# Altium footprint library FMCW-Radar-v1.PcbLib: 49 footprints (part 1 of 4)
Each footprint in its own frame and in the unit in brackets; x right, y up, seen from the top. Pads: shape width x height; smd on the part's side, far side on the other; paste and mask are expansions set on the pad; w line width, h text height; cw(c..) or ccw(c..) is an arc to the next point about the centre after c.
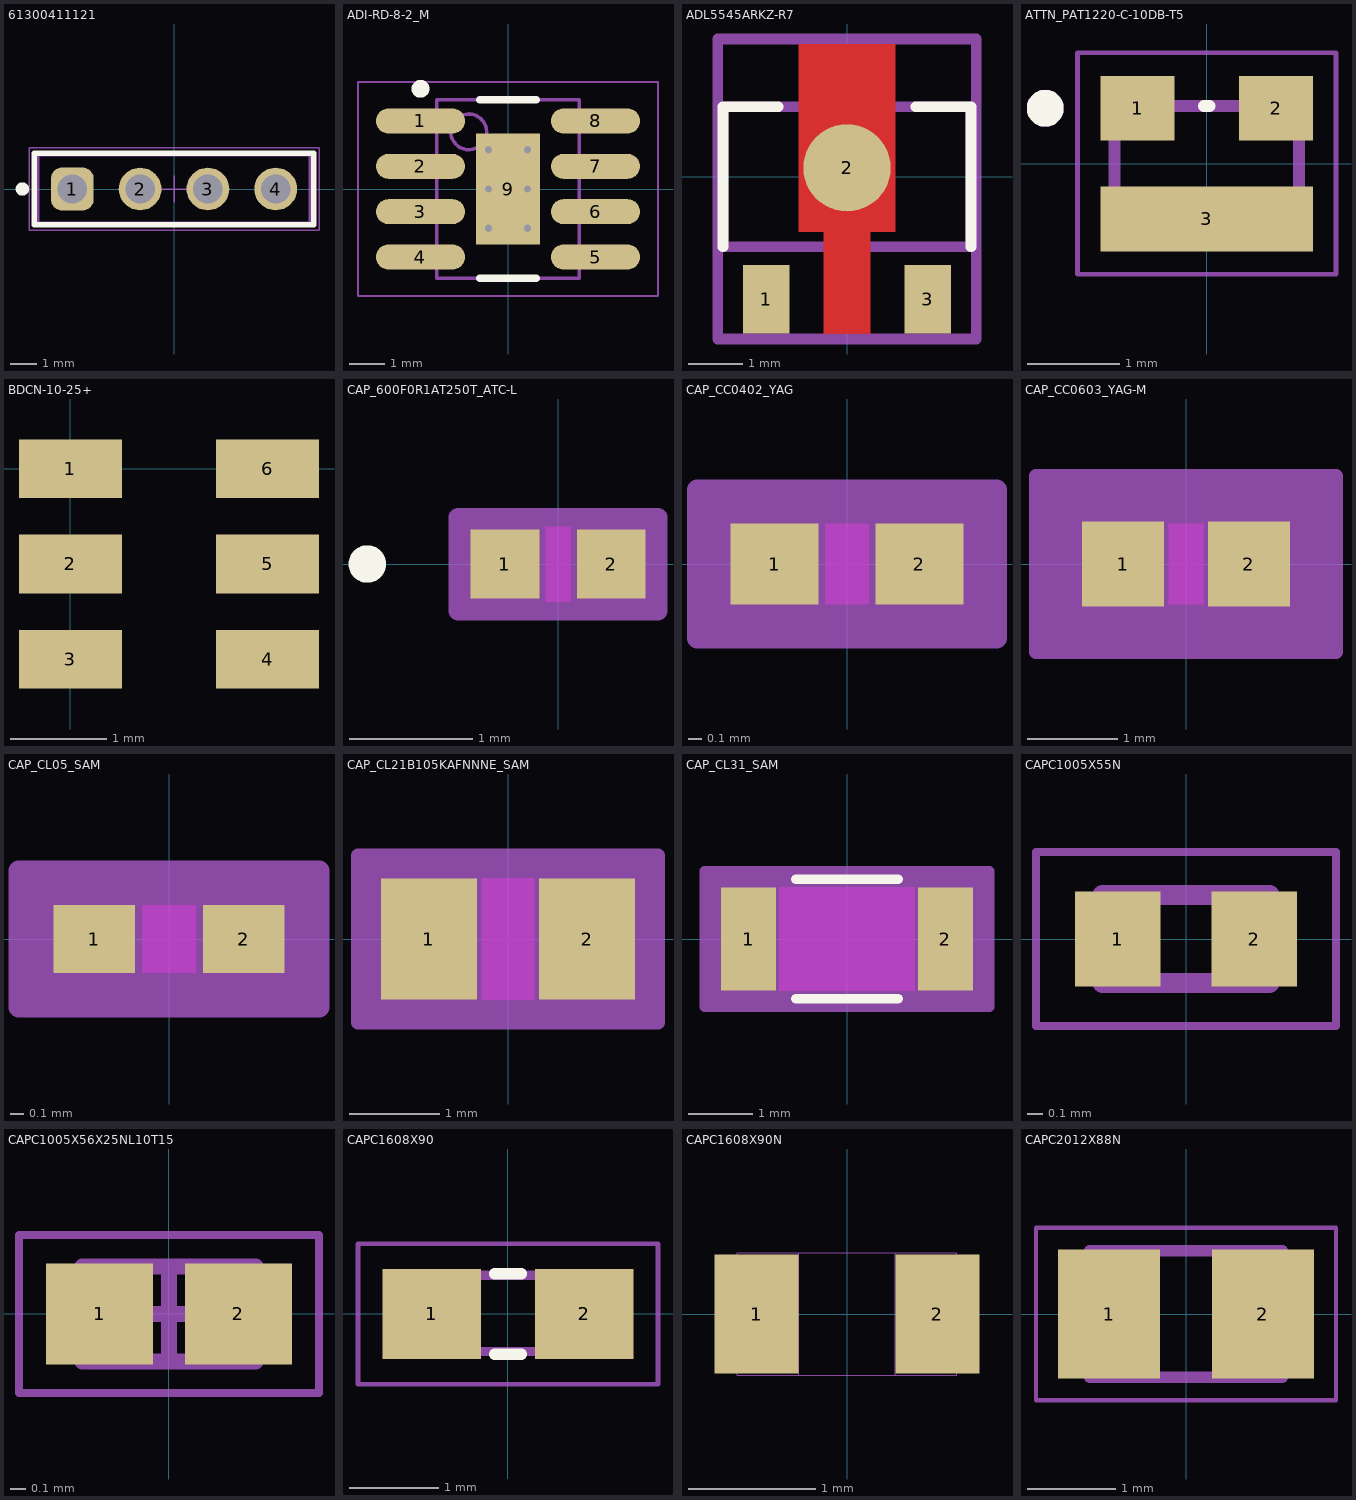
[diagram p0: the footprints below, top view; thin cyan lines are the x and y axes]

## 61300411121 [mm] "Pin Header, pitch 2.54 mm, THT, Vertical, single row, 4p"
height 8.54
pads (4):
  rrect50% 1.6x1.6 hole 1.1: 1(-3.81,0)
  round 1.6 hole 1.1: 2(-1.27,0) 3(1.27,0) 4(3.81,0)
Top Overlay:
  circle w0.25: c-5.68,0 r0.125
  lines w0.2: -5.23,-1.345 5.23,-1.345 5.23,1.345 -5.23,1.345 -5.23,-1.345
Top Designator:
  text ".Designator" at -7.498,-0.5 h1.5
Top Component Outline:
  lines w0.1: -5.08,-1.27 -5.08,1.27 5.08,1.27 5.08,-1.27 -5.08,-1.27
Top Courtyard:
  lines w0.05: -5.43,-1.545 -5.43,1.545 5.43,1.545 5.43,-1.545 -5.43,-1.545
Top Component Center:
  lines w0.05: -0.5,0 0.5,0 ; 0,-0.5 0,0.5
3D body "61300411121.stp": height 8.57, standoff -2.97, extent -5.08,-1.27 5.08,1.27

## ADI-RD-8-2_M [mm] "SOIC, 8-Leads, Body 4.9x3.9mm, Pitch 1.27mm, Thermal Pad 3.098x2.41mm, IPC Low Density"
height 1.75
pads (9):
  oval 2.5x0.7 smd: 1(-2.45,1.905) 2(-2.45,0.635) 3(-2.45,-0.635) 4(-2.45,-1.905) 5(2.45,-1.905) 6(2.45,-0.635) 7(2.45,0.635) 8(2.45,1.905)
  rect 1.8x3.1 smd: 9(0,0)
via -0.55,1.1 diameter 0.5 hole 0.2
via 0.55,1.1 diameter 0.5 hole 0.2
via -0.55,0 diameter 0.5 hole 0.2
via 0.55,0 diameter 0.5 hole 0.2
via -0.55,-1.1 diameter 0.5 hole 0.2
via 0.55,-1.1 diameter 0.5 hole 0.2
Top Overlay:
  circle w0.25: c-2.45,2.805 r0.125
  lines w0.2: -0.8,-2.5 0.8,-2.5 ; -0.8,2.5 0.8,2.5
Top 3D Body:
  circle w0.1: c-1.1,1.6 r0.5
  lines w0.1: -2,-2.5 -2,2.5 2,2.5 2,-2.5 -2,-2.5
Top Courtyard:
  lines w0.05: -4.2,-3 -4.2,3 4.2,3 4.2,-3 -4.2,-3
  lines w0.1: -0.5,0 0.5,0 ; 0,-0.5 0,0.5
3D body: height 1.75, standoff 0.1, extent -2,-2.5 2,2.5

## ADL5545ARKZ-R7 [mm]
pads (3):
  rect 0.86x1.27 smd paste+0 mask+0: 1(-1.5,-2.278) 3(1.5,-2.278)
  round 1.62 smd paste+0 mask+0: 2(0,0.164)
Top Layer:
  region: -0.9,2.458 0.9,2.458 0.9,-1.022 0.43,-1.022 0.43,-2.913 -0.43,-2.913 -0.43,-1.022 -0.9,-1.022
Top Overlay:
  lines w0.2: -2.3,-1.3 -2.3,1.3 -1.275,1.3 ; 1.275,1.3 2.3,1.3 2.3,-1.3
Top Assembly:
  lines w0.2: -2.4,-3.013 -2.4,2.558 2.4,2.558 2.4,-3.013 -2.4,-3.013
  text ".Designator" at 0,-0.228 h1
Top 3D Body:
  lines w0.2: -2.3,-1.3 -2.3,1.3 2.3,1.3 2.3,-1.3 -2.3,-1.3
Top Courtyard:
  lines w0.2: -2.4,-3.013 -2.4,2.558 2.4,2.558 2.4,-3.013 -2.4,-3.013
Top Component Center:
  lines w0.1: -0.5,0 0.5,0 ; 0,-0.5 0,0.5
3D body "IC_Analog_Devices_HMC589AST89E_eec.STEP": height 0.25, standoff 0, extent -2.4,-3.013 2.4,2.558

## ATTN_PAT1220-C-10DB-T5 [mm]
pads (3):
  rect 0.8x0.7 smd: 1(-0.75,0.6) 2(0.75,0.6)
  rect 2.3x0.7 smd: 3(0,-0.6)
Top Overlay:
  circle w0.2: c-1.75,0.6 r0.1
  lines w0.127: -0.03,0.625 0.03,0.625
Top 3D Body:
  circle w0.2: c-1.75,0.6 r0.1
  lines w0.127: -1,-0.625 -1,0.625 1,0.625 1,-0.625 -1,-0.625
Top Courtyard:
  lines w0.05: -1.4,-1.2 -1.4,1.2 1.4,1.2 1.4,-1.2 -1.4,-1.2

## BDCN-10-25+ [mm]
pads (6):
  rect 1.07x0.61 smd paste+0 mask+0: 1(0,0) 2(0,-0.99) 3(0,-1.98) 4(2.05,-1.98) 5(2.05,-0.99) 6(2.05,0)

## CAP_600F0R1AT250T_ATC-L [mil]
pads (2):
  rect 22x22 smd paste+0 mask+0: 1(-17,0) 2(17,0)
Top Layer keep-out:
  region: -4,-10 -4,10 4,10 4,-10
Top Overlay:
  circle w6: c-61,0 r3
Keep-Out Layer:
  region: -4,-12 -4,12 4,12 4,-12
Top 3D Body:
  circle w0: c-12,0 r3
  lines w1: -22,-12 -22,12 ; -22,-12 22,-12 ; -22,-12 -6,-12 -6,12 -22,12 ; -22,-12 -22,12 ; -22,12 22,12 ; 22,-12 22,12 ; 22,-12 22,12 ; 22,-12 6,-12 6,12 22,12
Top Courtyard:
  region: 32,-15 -32,-15 -32,15 32,15
  lines w6: -32,-15 32,-15 32,15 -32,15 -32,-15
3D body "CAP_600F0R1AT250T_ATC.step": height 24.02, standoff 0, extent -22.01,-12.01 22.01,12.01

## CAP_CC0402_YAG [mil]
pads (2):
  rect 26x24 smd paste+0 mask+0: 1(-21.5,0) 2(21.5,0)
Top Layer keep-out:
  region: -6.5,-10 -6.5,10 6.5,10 6.5,-10
Keep-Out Layer:
  region: -6.5,-12 -6.5,12 6.5,12 6.5,-12
Top 3D Body:
  lines w1: -20.5,-12 -20.5,12 ; -20.5,-12 -8.5,-12 -8.5,12 -20.5,12 ; -20.5,-12 20.5,-12 ; -20.5,-12 -20.5,12 ; -20.5,12 20.5,12 ; 20.5,-12 8.5,-12 8.5,12 20.5,12 ; 20.5,-12 20.5,12 ; 20.5,-12 20.5,12
Top Courtyard:
  region: 44.5,-22 -44.5,-22 -44.5,22 44.5,22
  lines w6: -44.5,-22 -44.5,22 44.5,22 44.5,-22 -44.5,-22
3D body "CAP_CC0402_YAG.step": height 22.01, standoff 0, extent -20.51,-12.01 20.51,12.01

## CAP_CC0603_YAG-M [mil]
pads (2):
  rect 36x37 smd paste+0 mask+0: 1(-27.5,0) 2(27.5,0)
Top Layer keep-out:
  region: -7.5,-15.5 -7.5,15.5 7.5,15.5 7.5,-15.5
Keep-Out Layer:
  region: -7.5,-17.5 -7.5,17.5 7.5,17.5 7.5,-17.5
Top 3D Body:
  lines w1: -33.5,-17.5 -33.5,17.5 ; -33.5,-17.5 33.5,-17.5 ; -33.5,-17.5 -9.5,-17.5 -9.5,17.5 -33.5,17.5 ; -33.5,-17.5 -33.5,17.5 ; -33.5,17.5 33.5,17.5 ; 33.5,-17.5 33.5,17.5 ; 33.5,-17.5 33.5,17.5 ; 33.5,-17.5 9.5,-17.5 9.5,17.5 33.5,17.5
Top Courtyard:
  region: 65.5,-38.5 -65.5,-38.5 -65.5,38.5 65.5,38.5
  lines w6: -65.5,-38.5 65.5,-38.5 65.5,38.5 -65.5,38.5 -65.5,-38.5
3D body "CAP_CC0603_YAG.step": height 35, standoff 0, extent -33.5,-17.48 33.5,17.48

## CAP_CL05_SAM [mm]
pads (2):
  rect 0.606x0.5 smd paste+0 mask+0: 1(-0.553,0) 2(0.553,0)
Top Layer keep-out:
  region: -0.199,-0.199 -0.199,0.199 0.199,0.199 0.199,-0.199
Keep-Out Layer:
  region: -0.199,-0.25 -0.199,0.25 0.199,0.25 0.199,-0.25
Top 3D Body:
  lines w0.025: -0.5,-0.25 -0.5,0.25 ; -0.5,-0.25 -0.25,-0.25 -0.25,0.25 -0.5,0.25 ; -0.5,-0.25 0.5,-0.25 ; -0.5,-0.25 -0.5,0.25 ; -0.5,0.25 0.5,0.25 ; 0.5,-0.25 0.25,-0.25 0.25,0.25 0.5,0.25 ; 0.5,-0.25 0.5,0.25 ; 0.5,-0.25 0.5,0.25
Top Courtyard:
  region: 1.11,-0.504 -1.11,-0.504 -1.11,0.504 1.11,0.504
  lines w0.152: -1.11,-0.504 -1.11,0.504 1.11,0.504 1.11,-0.504 -1.11,-0.504
3D body "CAP_CL05_SAM.step": height 0.55, standoff 0, extent -0.5,-0.25 0.5,0.25

## CAP_CL21B105KAFNNNE_SAM [mil]
pads (2):
  rect 42x53 smd paste+0 mask+0: 1(-34.5,0) 2(34.5,0)
Top Layer keep-out:
  region: -11.5,-24.5 -11.5,24.5 11.5,24.5 11.5,-24.5
Keep-Out Layer:
  region: -11.5,-26.5 -11.5,26.5 11.5,26.5 11.5,-26.5
Top 3D Body:
  lines w1: -41.5,-26.5 -41.5,26.5 ; -41.5,-26.5 41.5,-26.5 ; -41.5,-26.5 -13.5,-26.5 -13.5,26.5 -41.5,26.5 ; -41.5,-26.5 -41.5,26.5 ; -41.5,26.5 41.5,26.5 ; 41.5,-26.5 41.5,26.5 ; 41.5,-26.5 41.5,26.5 ; 41.5,-26.5 13.5,-26.5 13.5,26.5 41.5,26.5
Top Courtyard:
  region: 65.5,-36.5 -65.5,-36.5 -65.5,36.5 65.5,36.5
  lines w6: -65.5,-36.5 65.5,-36.5 65.5,36.5 -65.5,36.5 -65.5,-36.5
3D body "CAP_CL21B105KAFNNNE_SAM.step": height 52.99, standoff 0, extent -41.5,-26.5 41.5,26.5

## CAP_CL31_SAM [mm]
pads (2):
  rect 0.856x1.6 smd paste+0 mask+0: 1(-1.528,0) 2(1.528,0)
Top Layer keep-out:
  region: -1.049,-0.749 -1.049,0.749 1.049,0.749 1.049,-0.749
Top Overlay:
  lines w0.152: -0.792,-0.927 0.792,-0.927 ; -0.792,0.927 0.792,0.927
Keep-Out Layer:
  region: -1.049,-0.8 -1.049,0.8 1.049,0.8 1.049,-0.8
Top 3D Body:
  lines w0.025: -1.6,-0.8 -1.6,0.8 ; -1.6,-0.8 -1.1,-0.8 -1.1,0.8 -1.6,0.8 ; -1.6,-0.8 1.6,-0.8 ; -1.6,-0.8 -1.6,0.8 ; -1.6,0.8 1.6,0.8 ; 1.6,-0.8 1.1,-0.8 1.1,0.8 1.6,0.8 ; 1.6,-0.8 1.6,0.8 ; 1.6,-0.8 1.6,0.8
Top Courtyard:
  region: 2.21,-1.054 -2.21,-1.054 -2.21,1.054 2.21,1.054
  lines w0.152: -2.21,-1.054 -2.21,1.054 2.21,1.054 2.21,-1.054 -2.21,-1.054
3D body "CAP_CL31_SAM.step": height 1, standoff 0, extent -1.6,-0.8 1.6,0.8

## CAPC1005X55N [mm]
pads (2):
  rect 0.54x0.6 smd: 1(-0.432,0) 2(0.432,0)
Top 3D Body:
  lines w0.127: -0.53,-0.28 -0.53,0.28 ; -0.53,-0.28 0.53,-0.28 ; -0.53,-0.28 -0.53,0.28 ; -0.53,-0.28 0.53,-0.28 ; -0.53,0.28 0.53,0.28 ; -0.53,0.28 0.53,0.28 ; 0.53,-0.28 0.53,0.28 ; 0.53,-0.28 0.53,0.28
Top Courtyard:
  lines w0.05: -0.95,-0.55 -0.95,0.55 0.95,0.55 0.95,-0.55 -0.95,-0.55

## CAPC1005X56X25NL10T15 [mm] "Chip Capacitor, 2-Leads, Body 1.00x0.50mm, IPC Medium Density"
height 0.56
pads (2):
  rect 0.68x0.64 smd: 1(-0.44,0) 2(0.44,0)
Top 3D Body:
  lines w0.1: -0.55,-0.3 -0.55,0.3 0.55,0.3 0.55,-0.3 -0.55,-0.3
Top Courtyard:
  lines w0.05: -0.95,-0.5 -0.95,0.5 0.95,0.5 0.95,-0.5 -0.95,-0.5
  lines w0.1: -0.3,0 0.3,0 ; 0,-0.3 0,0.3
3D body: height 0.56, standoff 0, extent -0.3,-0.3 0.3,0.3
3D body: height 0.56, standoff 0, extent -0.55,-0.3 -0.3,0.3
3D body: height 0.56, standoff 0, extent 0.3,-0.3 0.55,0.3

## CAPC1608X90 [mm]
pads (2):
  rect 1.1x1 smd: 1(-0.85,0) 2(0.85,0)
Top Overlay:
  lines w0.127: -0.15,-0.45 0.15,-0.45 ; -0.15,0.45 0.15,0.45
Top 3D Body:
  region: 0.83,-0.471 0.331,-0.471 0.331,0.48 0.83,0.48
  region: -0.338,-0.47 -0.839,-0.47 -0.839,0.48 -0.338,0.48
  lines w0.102: -0.356,-0.419 0.356,-0.419 ; -0.356,0.432 0.356,0.432
Top Courtyard:
  lines w0.051: -1.673,-0.783 -1.673,0.783 1.673,0.783 1.673,-0.783 -1.673,-0.783

## CAPC1608X90N [mil]
pads (2):
  rect 26x37 smd: 1(-28,0) 2(28,0)
Top 3D Body:
  lines w0: -15,-19 15,-19 ; -15,-19 -34,-19 -34,19 -15,19 ; -15,-19 -15,19 ; -15,19 15,19 ; 15,-19 34,-19 34,19 15,19 ; 15,-19 15,19

## CAPC2012X88N [mm]
pads (2):
  rect 1.16x1.47 smd: 1(-0.875,0) 2(0.875,0)
Top 3D Body:
  lines w0.127: -1.1,-0.72 -1.1,0.72 1.1,0.72 1.1,-0.72 -1.1,-0.72
Top Courtyard:
  lines w0.05: -1.708,-0.983 -1.708,0.983 1.708,0.983 1.708,-0.983 -1.708,-0.983